# EAGLE library part UBLOX-MAX-M8X (library X893)
MAX-M8C MAX-M8Q MAX-M8W MAX-M8 Hardware Integration Manual <http://www.u-blox.com/images/downloads/Product_Docs/MAX-M8_HardwareIntegrationManual_(UBX-13004876).pdf>
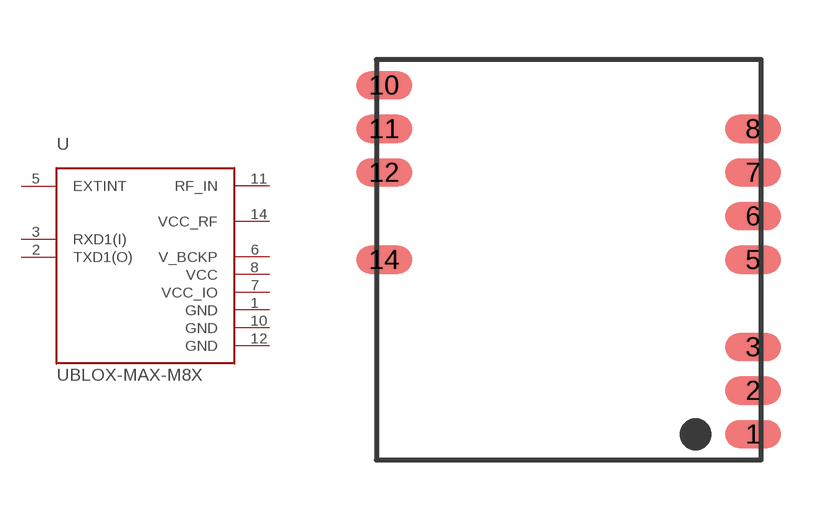
[diagram p221: symbol with the pads of MAX-M8-L7X; footprint MAX-M8-L7X]

Designator prefix U

## UBLOX-MAX-M8X  [MAX-M8-L7X]
1  GND  pwr
2  TXD1(O)  out
3  RXD1(I)  in
5  EXTINT  in
6  V_BCKP  pas
7  VCC_IO  pas
8  VCC  pwr
10  GND  pwr
11  RF_IN  pas
12  GND  pwr
14  VCC_RF  pas

## Footprint MAX-M8-L7X (pad centres in mm)
smd 1.4 x 0.7: 1 4.65,-4.4; 2 4.65,-3.3; 3 4.65,-2.2; 5 4.65,0; 6 4.65,1.1; 7 4.65,2.2; 8 4.65,3.3; 10 -4.65,4.4; 11 -4.65,3.3; 12 -4.65,2.2; 14 -4.65,0